# Altium footprint library PCB - CONNECTOR - WURTH - 61200621621.PcbLib: 1 footprints
Each footprint in its own frame and in the unit in brackets; x right, y up, seen from the top. Pads: shape width x height; smd on the part's side, far side on the other; paste and mask are expansions set on the pad; w line width, h text height; cw(c..) or ccw(c..) is an arc to the next point about the centre after c.
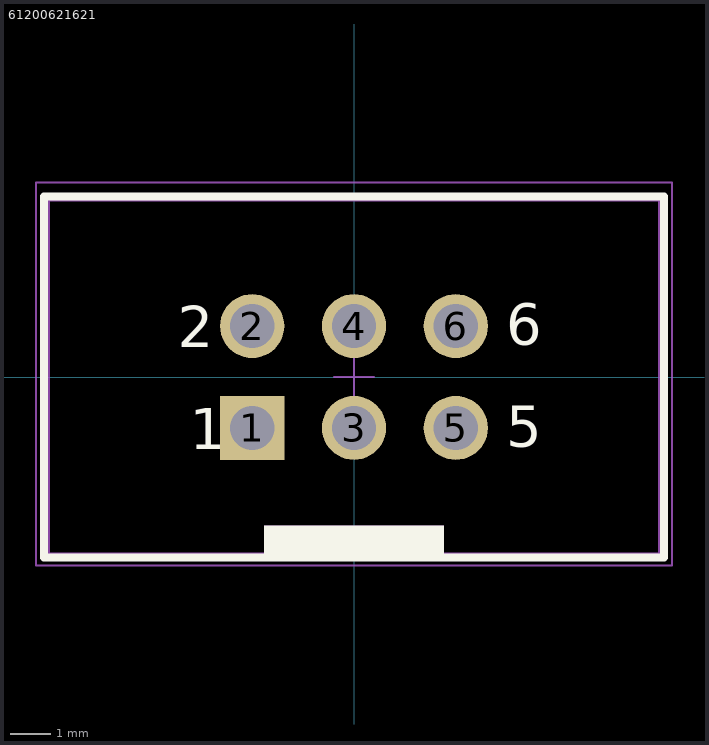
[diagram p0: the footprint, top view; thin cyan lines are the x and y axes]

## 61200621621 [mm] "6 pins, straight, gold plating"
height 9.1
pads (6):
  rect 1.6x1.6 hole 1.1: 1(-2.54,-1.27)
  round 1.6 hole 1.1: 2(-2.54,1.27) 3(0,-1.27) 4(0,1.27) 5(2.54,-1.27) 6(2.54,1.27)
Top Overlay:
  rectangle: -2.25,-4.5 2.25,-3.7
  lines w0.2: -7.74,-4.5 7.74,-4.5 7.74,4.5 -7.74,4.5 -7.74,-4.5
  text "1" at -4.1,-1.8 h1.02
  text "6" at 3.8,0.8 h1.02
  text "2" at -4.4,0.74 h1.02
  text "5" at 3.8,-1.74 h1.02
Top 3D Body:
  rectangle: -2.25,-4.425 2.25,-3.7
  lines w0.1: -7.64,-4.425 7.64,-4.425 7.64,4.425 -7.64,4.425 -7.64,-4.425
Top Assembly:
  lines w0.05: -7.94,-4.7 7.94,-4.7 7.94,4.85 -7.94,4.85 -7.94,-4.7
Top Component Center:
  lines w0.05: -0.5,0 0.5,0 ; 0,-0.5 0,0.5
3D body "61200621621.stp": height 9.13, standoff -2.98, extent -7.64,-4.425 7.64,4.75